# Altium schematic symbol library SS8050.Schlib: 1 symbol
Pins are listed as number, name and electrical type; pins without a type are passive.

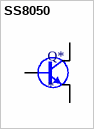
[diagram p0: symbol SS8050]

## SS8050
designator Q*
NPN 1.5A 25V 300mW SOT-23(SOT-23-3) Transistors (NPN/PNP) RoHS; ComponentLink1Description: LCSC - Changjiang Electronics Tech (CJ) SS8050; ComponentLink1URL: v; LCSC Part #: C2150
footprint SOT23-3
pins: 1 B, 2 E, 3 C